# Altium footprint library PCB - CONNECTOR - SAMTEC TSW-103-05-G-D.PCBLIB: 1 footprints
Each footprint in its own frame and in the unit in brackets; x right, y up, seen from the top. Pads: shape width x height; smd on the part's side, far side on the other; paste and mask are expansions set on the pad; w line width, h text height; cw(c..) or ccw(c..) is an arc to the next point about the centre after c.
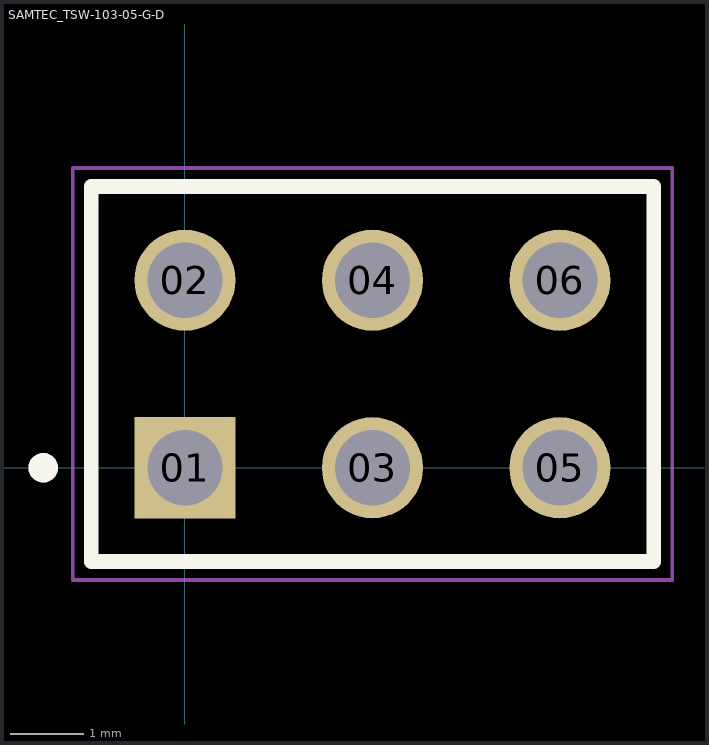
[diagram p0: the footprint, top view; thin cyan lines are the x and y axes]

## SAMTEC_TSW-103-05-G-D [mm]
pads (6):
  rect 1.37x1.37 hole 1.02: 01(0,0)
  round 1.37 hole 1.02: 02(0,2.54) 03(2.54,0) 04(2.54,2.54) 05(5.08,0) 06(5.08,2.54)
Top Overlay:
  circle w0.2: c-1.92,0 r0.1
  lines w0.2: -1.27,-1.27 6.35,-1.27 6.35,3.81 -1.27,3.81 -1.27,-1.27
Top Assembly:
  circle w0.2: c-1.92,0 r0.1
  lines w0.1: -1.27,-1.27 -1.27,3.81 6.35,3.81 6.35,-1.27 -1.27,-1.27
Top Courtyard:
  lines w0.05: -1.52,-1.52 -1.52,4.06 6.6,4.06 6.6,-1.52 -1.52,-1.52
Top Designator:
  text ".Designator" at -1.489,5.743 h1
Top Value (Mech13):
  text ".Comment" at -1.255,4.633 h1
3D body "TSW-103-05-G-D.stp": height 5.33, standoff -3.17, extent -1.27,-1.27 6.35,3.81